# EAGLE library part MICROMATCH-16 (library con-amp-micromatch)
MicroMaTch 16 8-215464-6 / 1-215464-6 Drawing Number C-215464 DDEController.pdf
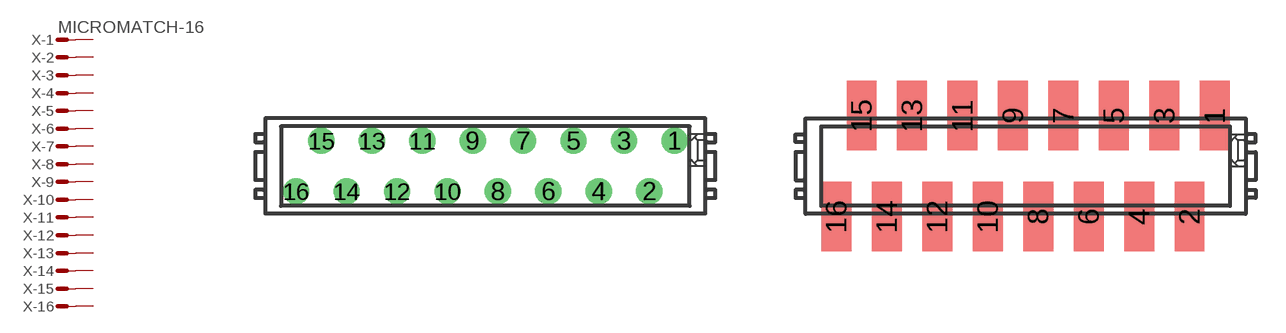
[diagram p2: symbol with the pads of MICROMATCH-16; footprints MICROMATCH-16, MMT-SMD-16]

Designator prefix X; gates -1=MV -2=M -3=M -4=M -5=M -6=M -7=M -8=M -9=M -10=M -11=M -12=M -13=M -14=M -15=M -16=M

## MICROMATCH-16  [MICROMATCH-16]
1  -1:S  pas
2  -2:S  pas
3  -3:S  pas
4  -4:S  pas
5  -5:S  pas
6  -6:S  pas
7  -7:S  pas
8  -8:S  pas
9  -9:S  pas
10  -10:S  pas
11  -11:S  pas
12  -12:S  pas
13  -13:S  pas
14  -14:S  pas
15  -15:S  pas
16  -16:S  pas

## MICROMATCH-16SM  [MMT-SMD-16]
Pads as for MICROMATCH-16

## MICROMATCH-16SMF  [MMT-F-SMD-16]
Pads as for MICROMATCH-16

## Footprint MICROMATCH-16 (pad centres in mm)
MicroMaTch 16 8-215464-6 / 1-215464-6 Drawing Number C-215464 DDEController.pdf
drill 0.813 round: 1 9.525,1.27; 2 8.255,-1.27; 3 6.985,1.27; 4 5.715,-1.27; 5 4.445,1.27; 6 3.175,-1.27; 7 1.905,1.27; 8 0.635,-1.27; 9 -0.635,1.27; 10 -1.905,-1.27; 11 -3.175,1.27; 12 -4.445,-1.27; 13 -5.715,1.27; 14 -6.985,-1.27; 15 -8.255,1.27; 16 -9.525,-1.27

## Footprint MMT-SMD-16 (pad centres in mm)
MicroMaTch 16 SMD 7-215464-16
smd 1.5 x 3.5: 1 9.525,2.54; 2 8.255,-2.54; 3 6.985,2.54; 4 5.715,-2.54; 5 4.445,2.54; 6 3.175,-2.54; 7 1.905,2.54; 8 0.635,-2.54; 9 -0.635,2.54; 10 -1.905,-2.54; 11 -3.175,2.54; 12 -4.445,-2.54; 13 -5.715,2.54; 14 -6.985,-2.54; 15 -8.255,2.54; 16 -9.525,-2.54

## Footprint MMT-F-SMD-16 (pad centres in mm)
MicroMaTch 16 SMD 7-215464-16
smd 1.3 x 3.5: 1 9.525,-2.54; 2 8.255,2.54; 3 6.985,-2.54; 4 5.715,2.54; 5 4.445,-2.54; 6 3.175,2.54; 7 1.905,-2.54; 8 0.635,2.54; 9 -0.635,-2.54; 10 -1.905,2.54; 11 -3.175,-2.54; 12 -4.445,2.54; 13 -5.715,-2.54; 14 -6.985,2.54; 15 -8.255,-2.54; 16 -9.525,2.54